# EAGLE library part FPC-LINE-6P (library Deegou_Connector)
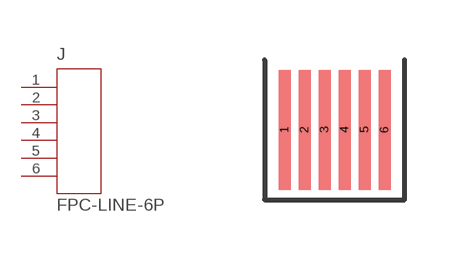
[diagram p1: symbol with the pads of FPC0.5-LINE-6P; footprint FPC0.5-LINE-6P]

Designator prefix J

## FPC-LINE-6P  [FPC0.5-LINE-6P]
1  1
2  2
3  3
4  4
5  5
6  6

## Footprint FPC0.5-LINE-6P (pad centres in mm)
smd 0.3 x 3: 1 -1.25,0; 2 -0.75,0; 3 -0.25,0; 4 0.25,0; 5 0.75,0; 6 1.25,0